# Altium schematic symbol library mcus_atmel.SchLib: 62 symbols (part 2 of 2)
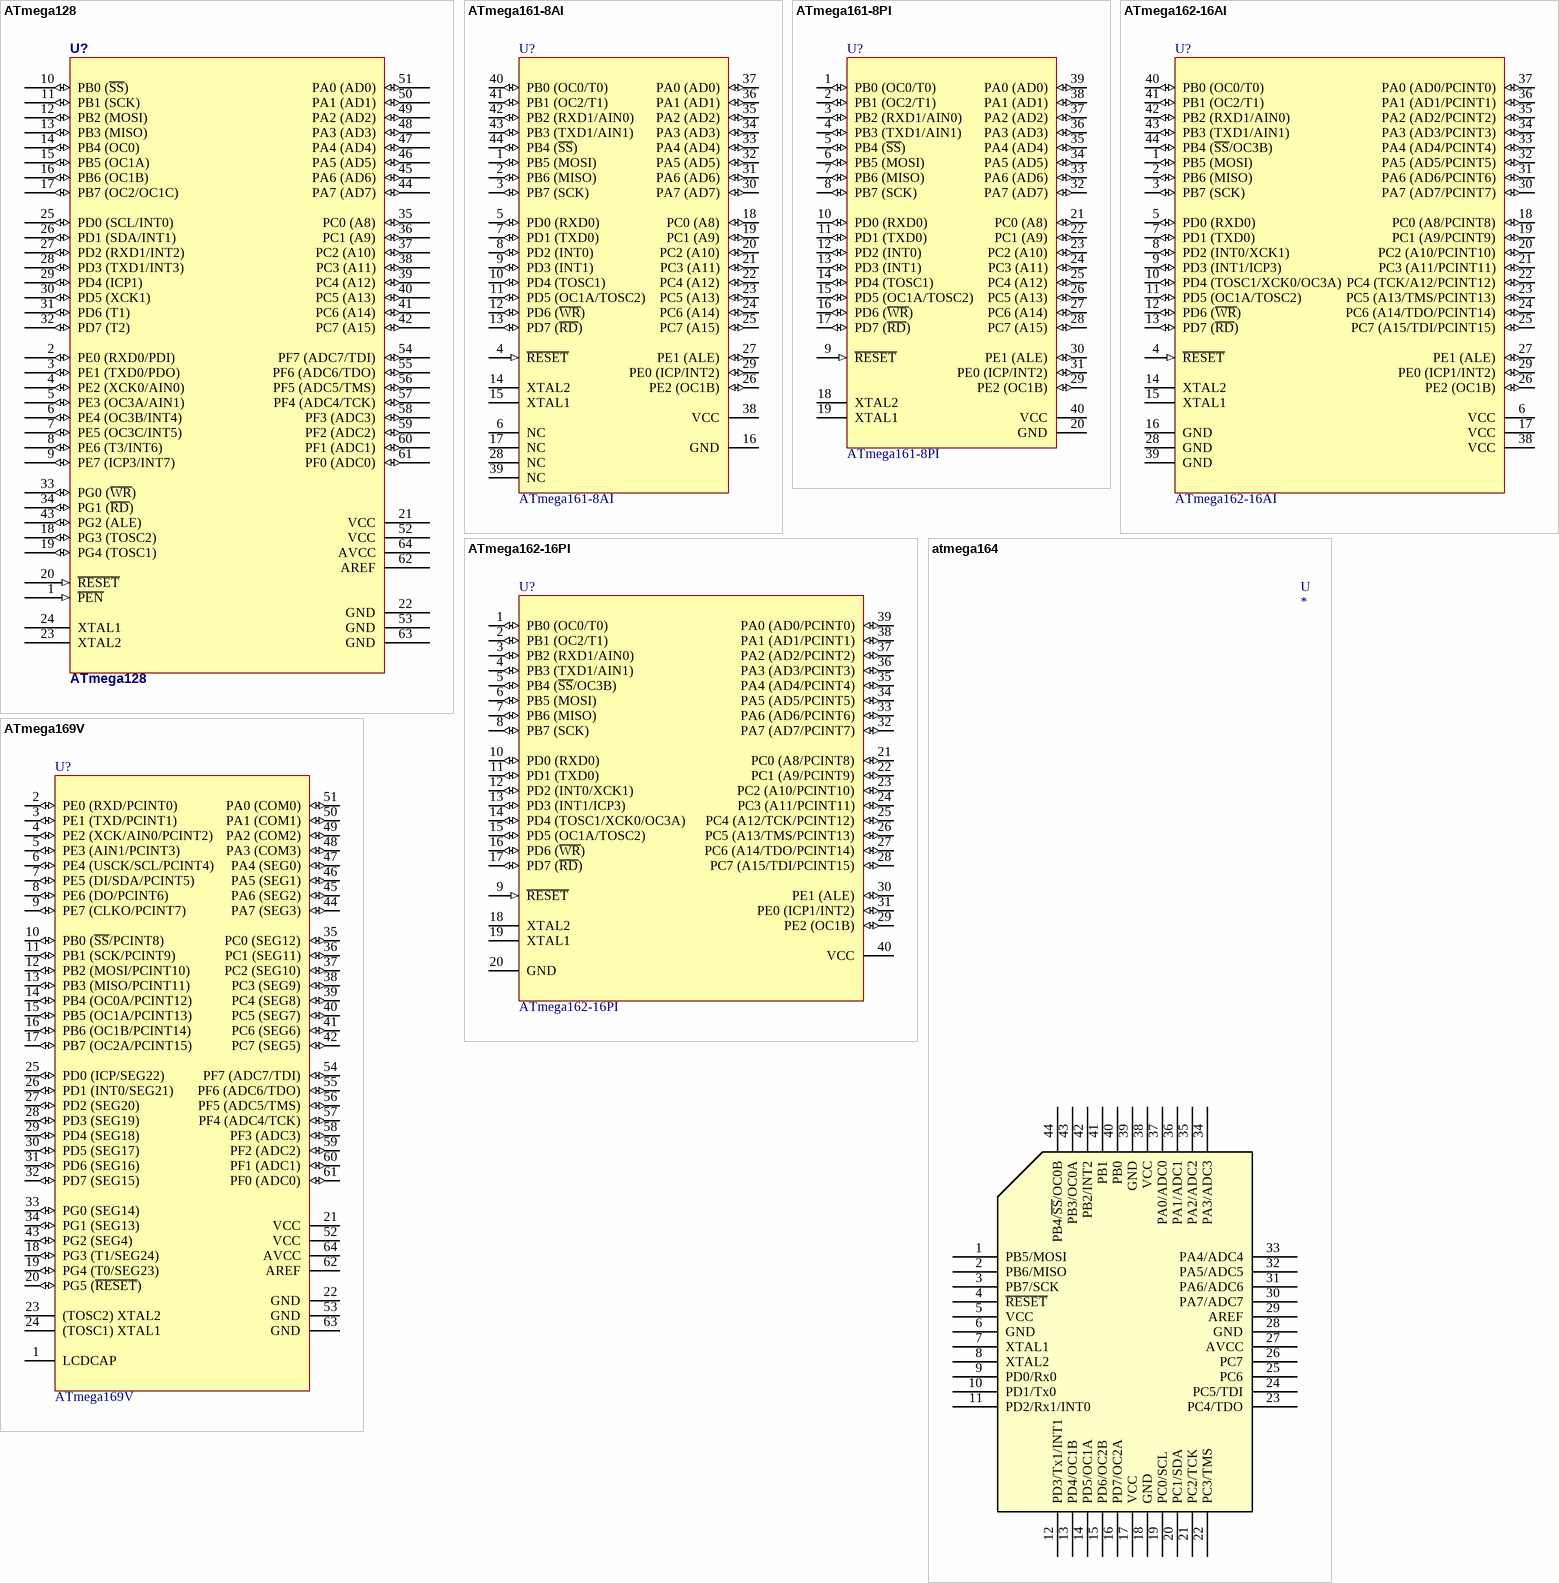
[diagram p7: symbols ATmega128 to ATmega169V]

## atmega164
designator U
ComponentLink1Description: datasheet; ComponentLink2Description: supplier
footprint TQFP44 (Footprint not found)
pins: 1 PB5/MOSI, 2 PB6/MISO, 3 PB7/SCK, 4 ~{RESET}, 5 VCC, 6 GND, 7 XTAL1, 8 XTAL2, 9 PD0/Rx0, 10 PD1/Tx0, 11 PD2/Rx1/INT0, 12 PD3/Tx1/INT1, 13 PD4/OC1B, 14 PD5/OC1A, 15 PD6/OC2B, 16 PD7/OC2A, 17 VCC, 18 GND, 19 PC0/SCL, 20 PC1/SDA, 21 PC2/TCK, 22 PC3/TMS, 23 PC4/TDO, 24 PC5/TDI, 25 PC6, 26 PC7, 27 AVCC, 28 GND, 29 AREF, 30 PA7/ADC7, 31 PA6/ADC6, 32 PA5/ADC5, 33 PA4/ADC4, 34 PA3/ADC3, 35 PA2/ADC2, 36 PA1/ADC1, 37 PA0/ADC0, 38 VCC, 39 GND, 40 PB0, 41 PB1, 42 PB2/INT2, 43 PB3/OC0A, 44 PB4/~{SS}/OC0B

## ATmega169V
designator U?
AVR 16K Bytes of In-System Programmable Flash Memory; Published: 17-Sep-2003; PackageDescription: 64-Pin Thin Quad Flat Pack 0.8 mm Pitch; ComponentLink1Description: datasheet; ComponentLink1URL: http://www.atmel.com/dyn/resources/prod_documents/doc1004.pdf; ComponentLink2Description: supplier
footprint TQFP64 (QFP; 64 Leads; Body 14 x 14 mm; Pitch 0.8 mm)
pins: 1 LCDCAP, 2 PE0 (RXD/PCINT0) (io), 3 PE1 (TXD/PCINT1) (io), 4 PE2 (XCK/AIN0/PCINT2) (io), 5 PE3 (AIN1/PCINT3) (io), 6 PE4 (USCK/SCL/PCINT4) (io), 7 PE5 (DI/SDA/PCINT5) (io), 8 PE6 (DO/PCINT6) (io), 9 PE7 (CLKO/PCINT7) (io), 10 PB0 (~{SS}/PCINT8) (io), 11 PB1 (SCK/PCINT9) (io), 12 PB2 (MOSI/PCINT10) (io), 13 PB3 (MISO/PCINT11) (io), 14 PB4 (OC0A/PCINT12) (io), 15 PB5 (OC1A/PCINT13) (io), 16 PB6 (OC1B/PCINT14) (io), 17 PB7 (OC2A/PCINT15) (io), 18 PG3 (T1/SEG24) (io), 19 PG4 (T0/SEG23) (io), 20 PG5 (~{RESET}) (io), 21 VCC (power), 22 GND (power), 23 (TOSC2) XTAL2, 24 (TOSC1) XTAL1, 25 PD0 (ICP/SEG22) (io), 26 PD1 (INT0/SEG21) (io), 27 PD2 (SEG20) (io), 28 PD3 (SEG19) (io), 29 PD4 (SEG18) (io), 30 PD5 (SEG17) (io), 31 PD6 (SEG16) (io), 32 PD7 (SEG15) (io), 33 PG0 (SEG14) (io), 34 PG1 (SEG13) (io), 35 PC0 (SEG12) (io), 36 PC1 (SEG11) (io), 37 PC2 (SEG10) (io), 38 PC3 (SEG9) (io), 39 PC4 (SEG8) (io), 40 PC5 (SEG7) (io), 41 PC6 (SEG6) (io), 42 PC7 (SEG5) (io), 43 PG2 (SEG4) (io), 44 PA7 (SEG3) (io), 45 PA6 (SEG2) (io), 46 PA5 (SEG1) (io), 47 PA4 (SEG0) (io), 48 PA3 (COM3) (io), 49 PA2 (COM2) (io), 50 PA1 (COM1) (io), 51 PA0 (COM0) (io), 52 VCC (power), 53 GND (power), 54 PF7 (ADC7/TDI) (io), 55 PF6 (ADC6/TDO) (io), 56 PF5 (ADC5/TMS) (io), 57 PF4 (ADC4/TCK) (io), 58 PF3 (ADC3) (io), 59 PF2 (ADC2) (io), 60 PF1 (ADC1) (io), 61 PF0 (ADC0) (io), 62 AREF, 63 GND (power), 64 AVCC (power)

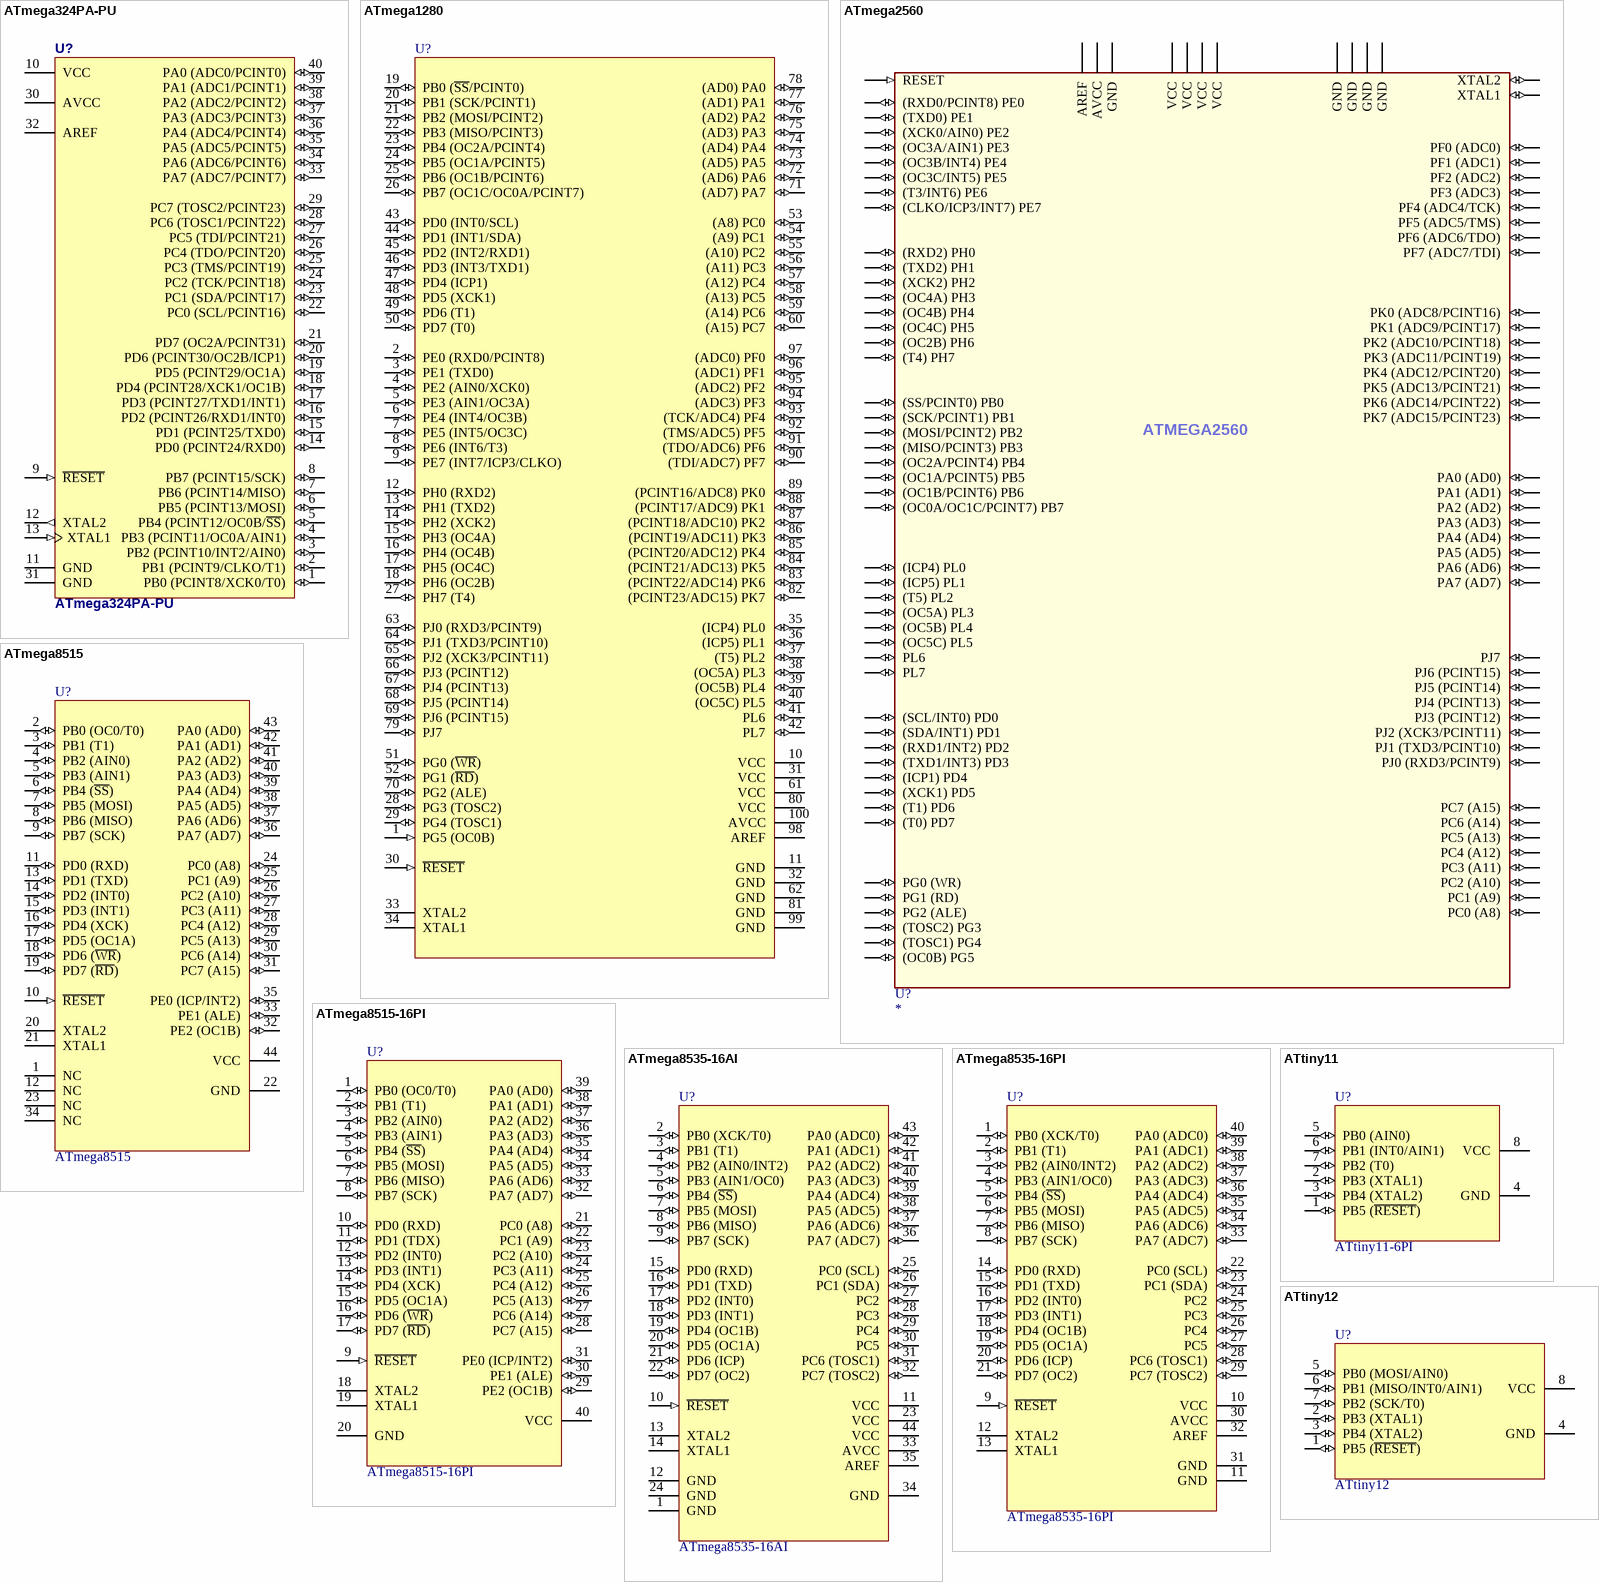
[diagram p5: symbols ATmega324PA-PU to ATtiny12]

## ATmega324PA-PU
designator U?
8-bit AVR Microcontroller, 32KB Flash, 1KB EEPROM, 2KB SRAM, 40-pin PDIP, Industrial Grade (-40°C to 85°C); DatasheetVersion: revC, Jun-2011; PackageVersion: revB, Sep-2001; PackageReference: 40P6; PackageDescription: 40-lead (0.600"/15.24mm Wide) Plastic Dual Inline Package (PDIP); Code_JEDEC: MS-011-AC; ComponentLink1Description: Manufacturer URL; ComponentLink1URL: http://www.atmel.com/; ComponentLink2Description: ATmega164A/164PA/324A/324PA/644A/644PA/1284/1284P Datasheet; ComponentLink2URL: http://www.atmel.com/dyn/resources/prod_documents/doc8272.pdf; ComponentLink3Description: ATmega164A/164PA/324A/324PA/644A/644PA/1284/1284P Summary; ComponentLink3URL: http://www.atmel.com/dyn/resources/prod_documents/8272S.pdf
footprint DIP40
footprint DIP40_PRECISION
footprint DIP40_PRECISION_W_IC
pins: 1 PB0 (PCINT8/XCK0/T0) (io), 2 PB1 (PCINT9/CLKO/T1) (io), 3 PB2 (PCINT10/INT2/AIN0) (io), 4 PB3 (PCINT11/OC0A/AIN1) (io), 5 PB4 (PCINT12/OC0B/~{SS}) (io), 6 PB5 (PCINT13/MOSI) (io), 7 PB6 (PCINT14/MISO) (io), 8 PB7 (PCINT15/SCK) (io), 9 ~{RESET} (in), 10 VCC (power), 11 GND (power), 12 XTAL2 (out), 13 XTAL1 (in), 14 PD0 (PCINT24/RXD0) (io), 15 PD1 (PCINT25/TXD0) (io), 16 PD2 (PCINT26/RXD1/INT0) (io), 17 PD3 (PCINT27/TXD1/INT1) (io), 18 PD4 (PCINT28/XCK1/OC1B) (io), 19 PD5 (PCINT29/OC1A) (io), 20 PD6 (PCINT30/OC2B/ICP1) (io), 21 PD7 (OC2A/PCINT31) (io), 22 PC0 (SCL/PCINT16) (io), 23 PC1 (SDA/PCINT17) (io), 24 PC2 (TCK/PCINT18) (io), 25 PC3 (TMS/PCINT19) (io), 26 PC4 (TDO/PCINT20) (io), 27 PC5 (TDI/PCINT21) (io), 28 PC6 (TOSC1/PCINT22) (io), 29 PC7 (TOSC2/PCINT23) (io), 30 AVCC (power), 31 GND (power), 32 AREF (power), 33 PA7 (ADC7/PCINT7) (io), 34 PA6 (ADC6/PCINT6) (io), 35 PA5 (ADC5/PCINT5) (io), 36 PA4 (ADC4/PCINT4) (io), 37 PA3 (ADC3/PCINT3) (io), 38 PA2 (ADC2/PCINT2) (io), 39 PA1 (ADC1/PCINT1) (io), 40 PA0 (ADC0/PCINT0) (io)

## ATmega1280
designator U?
8-Bit AVR Microcontroller with 128K Bytes of In-System Programmable Flash; Published: 21-Jun-2006; PackageReference: TQFP100
footprint TQFP100 (QFP; 100 Leads; Body 14 x 14 mm; Pitch 0.5 mm)
pins: 1 PG5 (OC0B) (in), 2 PE0 (RXD0/PCINT8) (io), 3 PE1 (TXD0) (io), 4 PE2 (AIN0/XCK0) (io), 5 PE3 (AIN1/OC3A) (io), 6 PE4 (INT4/OC3B) (io), 7 PE5 (INT5/OC3C) (io), 8 PE6 (INT6/T3) (io), 9 PE7 (INT7/ICP3/CLKO) (io), 10 VCC (power), 11 GND (power), 12 PH0 (RXD2) (io), 13 PH1 (TXD2) (io), 14 PH2 (XCK2) (io), 15 PH3 (OC4A) (io), 16 PH4 (OC4B) (io), 17 PH5 (OC4C) (io), 18 PH6 (OC2B) (io), 19 PB0 (~{SS}/PCINT0) (io), 20 PB1 (SCK/PCINT1) (io), 21 PB2 (MOSI/PCINT2) (io), 22 PB3 (MISO/PCINT3) (io), 23 PB4 (OC2A/PCINT4) (io), 24 PB5 (OC1A/PCINT5) (io), 25 PB6 (OC1B/PCINT6) (io), 26 PB7 (OC1C/OC0A/PCINT7) (io), 27 PH7 (T4) (io), 28 PG3 (TOSC2) (io), 29 PG4 (TOSC1) (io), 30 ~{RESET} (in), 31 VCC (power), 32 GND (power), 33 XTAL2, 34 XTAL1, 35 (ICP4) PL0 (io), 36 (ICP5) PL1 (io), 37 (T5) PL2 (io), 38 (OC5A) PL3 (io), 39 (OC5B) PL4 (io), 40 (OC5C) PL5 (io), 41 PL6 (io), 42 PL7 (io), 43 PD0 (INT0/SCL) (io), 44 PD1 (INT1/SDA) (io), 45 PD2 (INT2/RXD1) (io), 46 PD3 (INT3/TXD1) (io), 47 PD4 (ICP1) (io), 48 PD5 (XCK1) (io), 49 PD6 (T1) (io), 50 PD7 (T0) (io), 51 PG0 (~{WR}) (io), 52 PG1 (~{RD}) (io), 53 (A8) PC0 (io), 54 (A9) PC1 (io), 55 (A10) PC2 (io), 56 (A11) PC3 (io), 57 (A12) PC4 (io), 58 (A13) PC5 (io), 59 (A14) PC6 (io), 60 (A15) PC7 (io), 61 VCC (power), 62 GND (power), 63 PJ0 (RXD3/PCINT9) (io), 64 PJ1 (TXD3/PCINT10) (io), 65 PJ2 (XCK3/PCINT11) (io), 66 PJ3 (PCINT12) (io), 67 PJ4 (PCINT13) (io), 68 PJ5 (PCINT14) (io), 69 PJ6 (PCINT15) (io), 70 PG2 (ALE) (io), 71 (AD7) PA7 (io), 72 (AD6) PA6 (io), 73 (AD5) PA5 (io), 74 (AD4) PA4 (io), 75 (AD3) PA3 (io), 76 (AD2) PA2 (io), 77 (AD1) PA1 (io), 78 (AD0) PA0 (io), 79 PJ7 (io), 80 VCC (power), 81 GND (power), 82 (PCINT23/ADC15) PK7 (io), 83 (PCINT22/ADC14) PK6 (io), 84 (PCINT21/ADC13) PK5 (io), 85 (PCINT20/ADC12) PK4 (io), 86 (PCINT19/ADC11) PK3 (io), 87 (PCINT18/ADC10) PK2 (io), 88 (PCINT17/ADC9) PK1 (io), 89 (PCINT16/ADC8) PK0 (io), 90 (TDI/ADC7) PF7 (io), 91 (TDO/ADC6) PF6 (io), 92 (TMS/ADC5) PF5 (io), 93 (TCK/ADC4) PF4 (io), 94 (ADC3) PF3 (io), 95 (ADC2) PF2 (io), 96 (ADC1) PF1 (io), 97 (ADC0) PF0 (io), 98 AREF, 99 GND (power), 100 AVCC (power)

## ATmega2560
designator U?
AVR 256K Bytes of In-System Programmable Flash Memory; ComponentLink1Description: datasheet; ComponentLink2Description: supplier
footprint TQFP100 (QFP; 100 Leads; Body 14 x 14 mm; Pitch 0.5 mm)
pins: 1 (OC0B) PG5 (io), 2 (RXD0/PCINT8) PE0 (io), 3 (TXD0) PE1 (io), 4 (XCK0/AIN0) PE2 (io), 5 (OC3A/AIN1) PE3 (io), 6 (OC3B/INT4) PE4 (io), 7 (OC3C/INT5) PE5 (io), 8 (T3/INT6) PE6 (io), 9 (CLKO/ICP3/INT7) PE7 (io), 10 VCC (power), 11 GND (power), 12 (RXD2) PH0 (io), 13 (TXD2) PH1 (io), 14 (XCK2) PH2 (io), 15 (OC4A) PH3 (io), 16 (OC4B) PH4 (io), 17 (OC4C) PH5 (io), 18 (OC2B) PH6 (io), 19 (SS/PCINT0) PB0 (io), 20 (SCK/PCINT1) PB1 (io), 21 (MOSI/PCINT2) PB2 (io), 22 (MISO/PCINT3) PB3 (io), 23 (OC2A/PCINT4) PB4 (io), 24 (OC1A/PCINT5) PB5 (io), 25 (OC1B/PCINT6) PB6 (io), 26 (OC0A/OC1C/PCINT7) PB7 (io), 27 (T4) PH7 (io), 28 (TOSC2) PG3 (io), 29 (TOSC1) PG4 (io), 30 RESET (in), 31 VCC (power), 32 GND (power), 33 XTAL2 (io), 34 XTAL1 (io), 35 (ICP4) PL0 (io), 36 (ICP5) PL1 (io), 37 (T5) PL2 (io), 38 (OC5A) PL3 (io), 39 (OC5B) PL4 (io), 40 (OC5C) PL5 (io), 41 PL6 (io), 42 PL7 (io), 43 (SCL/INT0) PD0 (io), 44 (SDA/INT1) PD1 (io), 45 (RXD1/INT2) PD2 (io), 46 (TXD1/INT3) PD3 (io), 47 (ICP1) PD4 (io), 48 (XCK1) PD5 (io), 49 (T1) PD6 (io), 50 (T0) PD7 (io), 51 PG0 (WR) (io), 52 PG1 (RD) (io), 53 PC0 (A8) (io), 54 PC1 (A9) (io), 55 PC2 (A10) (io), 56 PC3 (A11) (io), 57 PC4 (A12) (io), 58 PC5 (A13) (io), 59 PC6 (A14) (io), 60 PC7 (A15) (io), 61 VCC (power), 62 GND (power), 63 PJ0 (RXD3/PCINT9) (io), 64 PJ1 (TXD3/PCINT10) (io), 65 PJ2 (XCK3/PCINT11) (io), 66 PJ3 (PCINT12) (io), 67 PJ4 (PCINT13) (io), 68 PJ5 (PCINT14) (io), 69 PJ6 (PCINT15) (io), 70 PG2 (ALE) (io), 71 PA7 (AD7) (io), 72 PA6 (AD6) (io), 73 PA5 (AD5) (io), 74 PA4 (AD4) (io), 75 PA3 (AD3) (io), 76 PA2 (AD2) (io), 77 PA1 (AD1) (io), 78 PA0 (AD0) (io), 79 PJ7 (io), 80 VCC (power), 81 GND (power), 82 PK7 (ADC15/PCINT23) (io), 83 PK6 (ADC14/PCINT22) (io), 84 PK5 (ADC13/PCINT21) (io), 85 PK4 (ADC12/PCINT20) (io), 86 PK3 (ADC11/PCINT19) (io), 87 PK2 (ADC10/PCINT18) (io), 88 PK1 (ADC9/PCINT17) (io), 89 PK0 (ADC8/PCINT16) (io), 90 PF7 (ADC7/TDI) (io), 91 PF6 (ADC6/TDO) (io), 92 PF5 (ADC5/TMS) (io), 93 PF4 (ADC4/TCK) (io), 94 PF3 (ADC3) (io), 95 PF2 (ADC2) (io), 96 PF1 (ADC1) (io), 97 PF0 (ADC0) (io), 98 AREF, 99 GND (power), 100 AVCC (power)
text: ATMEGA2560

## ATmega8515
designator U?
AVR 8K Bytes of In-System Programmable Flash Memory; Published: 17-Sep-2003; PackageDescription: 44-Pin Thin Quad Flat Pack 0.8 mm Pitch; ComponentLink1Description: datasheet; ComponentLink1URL: http://www.atmel.com/dyn/resources/prod_documents/doc1004.pdf; ComponentLink2Description: supplier
footprint TQFP44
pins: 1 NC, 2 PB0 (OC0/T0) (io), 3 PB1 (T1) (io), 4 PB2 (AIN0) (io), 5 PB3 (AIN1) (io), 6 PB4 (~{SS}) (io), 7 PB5 (MOSI) (io), 8 PB6 (MISO) (io), 9 PB7 (SCK) (io), 10 ~{RESET} (in), 11 PD0 (RXD) (io), 12 NC, 13 PD1 (TXD) (io), 14 PD2 (INT0) (io), 15 PD3 (INT1) (io), 16 PD4 (XCK) (io), 17 PD5 (OC1A) (io), 18 PD6 (~{WR}) (io), 19 PD7 (~{RD}) (io), 20 XTAL2, 21 XTAL1, 22 GND (power), 23 NC, 24 PC0 (A8) (io), 25 PC1 (A9) (io), 26 PC2 (A10) (io), 27 PC3 (A11) (io), 28 PC4 (A12) (io), 29 PC5 (A13) (io), 30 PC6 (A14) (io), 31 PC7 (A15) (io), 32 PE2 (OC1B) (io), 33 PE1 (ALE) (io), 34 NC, 35 PE0 (ICP/INT2) (io), 36 PA7 (AD7) (io), 37 PA6 (AD6) (io), 38 PA5 (AD5) (io), 39 PA4 (AD4) (io), 40 PA3 (AD3) (io), 41 PA2 (AD2) (io), 42 PA1 (AD1) (io), 43 PA0 (AD0) (io), 44 VCC (power)

## ATmega8515-16PI
designator U?
AVR 8K Bytes of In-System Programmable Flash Memory; Published: 17-Sep-2003; PackageDescription: DIP; 40 Leads; Row Spacing 15.24 mm; Pitch 2.54 mm; ComponentLink1Description: datasheet; ComponentLink1URL: http://www.atmel.com/dyn/resources/prod_documents/doc1004.pdf; ComponentLink2Description: supplier
footprint DIP40
pins: 1 PB0 (OC0/T0) (io), 2 PB1 (T1) (io), 3 PB2 (AIN0) (io), 4 PB3 (AIN1) (io), 5 PB4 (~{SS}) (io), 6 PB5 (MOSI) (io), 7 PB6 (MISO) (io), 8 PB7 (SCK) (io), 9 ~{RESET} (in), 10 PD0 (RXD) (io), 11 PD1 (TDX) (io), 12 PD2 (INT0) (io), 13 PD3 (INT1) (io), 14 PD4 (XCK) (io), 15 PD5 (OC1A) (io), 16 PD6 (~{WR}) (io), 17 PD7 (~{RD}) (io), 18 XTAL2, 19 XTAL1, 20 GND (power), 21 PC0 (A8) (io), 22 PC1 (A9) (io), 23 PC2 (A10) (io), 24 PC3 (A11) (io), 25 PC4 (A12) (io), 26 PC5 (A13) (io), 27 PC6 (A14) (io), 28 PC7 (A15) (io), 29 PE2 (OC1B) (io), 30 PE1 (ALE) (io), 31 PE0 (ICP/INT2) (io), 32 PA7 (AD7) (io), 33 PA6 (AD6) (io), 34 PA5 (AD5) (io), 35 PA4 (AD4) (io), 36 PA3 (AD3) (io), 37 PA2 (AD2) (io), 38 PA1 (AD1) (io), 39 PA0 (AD0) (io), 40 VCC (power)

## ATmega8535-16AI
designator U?
AVR 8K Bytes of In-System Programmable Flash Memory; Published: 17-Sep-2003; PackageDescription: 44-Pin Thin Quad Flat Pack 0.8 mm Pitch; ComponentLink1Description: datasheet; ComponentLink1URL: http://www.atmel.com/dyn/resources/prod_documents/doc1004.pdf; ComponentLink2Description: supplier
footprint TQFP44
pins: 1 GND (power), 2 PB0 (XCK/T0) (io), 3 PB1 (T1) (io), 4 PB2 (AIN0/INT2) (io), 5 PB3 (AIN1/OC0) (io), 6 PB4 (~{SS}) (io), 7 PB5 (MOSI) (io), 8 PB6 (MISO) (io), 9 PB7 (SCK) (io), 10 ~{RESET} (in), 11 VCC (power), 12 GND (power), 13 XTAL2, 14 XTAL1, 15 PD0 (RXD) (io), 16 PD1 (TXD) (io), 17 PD2 (INT0) (io), 18 PD3 (INT1) (io), 19 PD4 (OC1B) (io), 20 PD5 (OC1A) (io), 21 PD6 (ICP) (io), 22 PD7 (OC2) (io), 23 VCC (power), 24 GND (power), 25 PC0 (SCL) (io), 26 PC1 (SDA) (io), 27 PC2 (io), 28 PC3 (io), 29 PC4 (io), 30 PC5 (io), 31 PC6 (TOSC1) (io), 32 PC7 (TOSC2) (io), 33 AVCC (power), 34 GND (power), 35 AREF, 36 PA7 (ADC7) (io), 37 PA6 (ADC6) (io), 38 PA5 (ADC5) (io), 39 PA4 (ADC4) (io), 40 PA3 (ADC3) (io), 41 PA2 (ADC2) (io), 42 PA1 (ADC1) (io), 43 PA0 (ADC0) (io), 44 VCC (power)

## ATmega8535-16PI
designator U?
AVR 8K Bytes of In-System Programmable Flash Memory; Published: 17-Sep-2003; PackageDescription: DIP; 40 Leads; Row Spacing 15.24 mm; Pitch 2.54 mm; ComponentLink1Description: datasheet; ComponentLink1URL: http://www.atmel.com/dyn/resources/prod_documents/doc1004.pdf; ComponentLink2Description: supplier
footprint DIP40
pins: 1 PB0 (XCK/T0) (io), 2 PB1 (T1) (io), 3 PB2 (AIN0/INT2) (io), 4 PB3 (AIN1/OC0) (io), 5 PB4 (~{SS}) (io), 6 PB5 (MOSI) (io), 7 PB6 (MISO) (io), 8 PB7 (SCK) (io), 9 ~{RESET} (in), 10 VCC (power), 11 GND (power), 12 XTAL2, 13 XTAL1, 14 PD0 (RXD) (io), 15 PD1 (TXD) (io), 16 PD2 (INT0) (io), 17 PD3 (INT1) (io), 18 PD4 (OC1B) (io), 19 PD5 (OC1A) (io), 20 PD6 (ICP) (io), 21 PD7 (OC2) (io), 22 PC0 (SCL) (io), 23 PC1 (SDA) (io), 24 PC2 (io), 25 PC3 (io), 26 PC4 (io), 27 PC5 (io), 28 PC6 (TOSC1) (io), 29 PC7 (TOSC2) (io), 30 AVCC (power), 31 GND (power), 32 AREF, 33 PA7 (ADC7) (io), 34 PA6 (ADC6) (io), 35 PA5 (ADC5) (io), 36 PA4 (ADC4) (io), 37 PA3 (ADC3) (io), 38 PA2 (ADC2) (io), 39 PA1 (ADC1) (io), 40 PA0 (ADC0) (io)

## ATtiny11
designator U?, comment ATtiny11-6PI
AVR 1K Byte of Flash Memory; Published: 17-Sep-2003; PackageDescription: DIP; 8 Leads; Row Spacing 7.62 mm; Pitch 2.54 mm; ComponentLink1Description: datasheet; ComponentLink1URL: http://www.atmel.com/dyn/resources/prod_documents/doc1004.pdf; ComponentLink2Description: supplier
footprint DIP8
footprint SO8 (Small Outline; 8 Leads; Body Width 3.7 mm; Pitch 1.27 mm)
pins: 1 PB5 (~{RESET}) (io), 2 PB3 (XTAL1) (io), 3 PB4 (XTAL2) (io), 4 GND (power), 5 PB0 (AIN0) (io), 6 PB1 (INT0/AIN1) (io), 7 PB2 (T0) (io), 8 VCC (power)

## ATtiny12
designator U?
AVR 1K Byte of Flash Memory; Published: 17-Sep-2003; PackageDescription: DIP; 8 Leads; Row Spacing 7.62 mm; Pitch 2.54 mm; ComponentLink1Description: datasheet; ComponentLink1URL: http://www.atmel.com/dyn/resources/prod_documents/doc1004.pdf; ComponentLink2Description: supplier
footprint DIP8
footprint SO8 (Small Outline; 8 Leads; Body Width 3.7 mm; Pitch 1.27 mm)
pins: 1 PB5 (~{RESET}) (io), 2 PB3 (XTAL1) (io), 3 PB4 (XTAL2) (io), 4 GND (power), 5 PB0 (MOSI/AIN0) (io), 6 PB1 (MISO/INT0/AIN1) (io), 7 PB2 (SCK/T0) (io), 8 VCC (power)

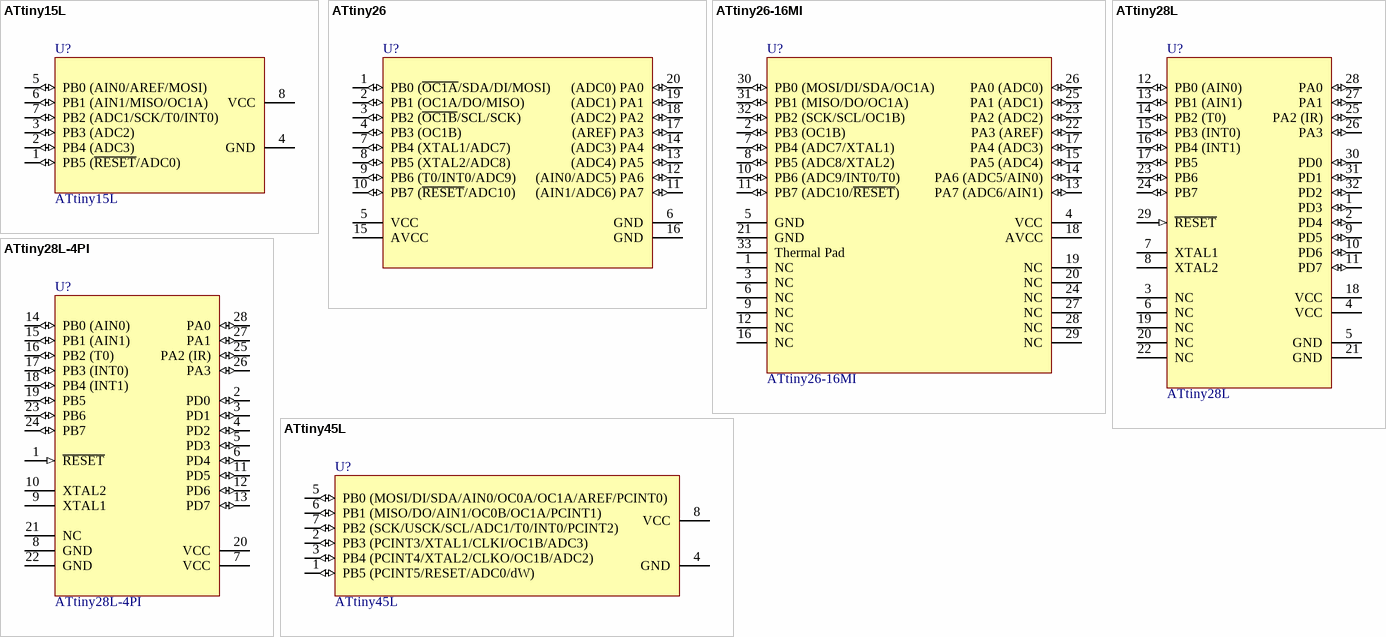
[diagram p6: symbols ATtiny15L to ATtiny45L]

## ATtiny15L
designator U?
AVR 1K Byte of Flash Memory; Published: 17-Sep-2003; PackageDescription: DIP; 8 Leads; Row Spacing 7.62 mm; Pitch 2.54 mm; ComponentLink1Description: datasheet; ComponentLink1URL: http://www.atmel.com/dyn/resources/prod_documents/doc1004.pdf; ComponentLink2Description: supplier
footprint DIP8
footprint SO8 (Small Outline; 8 Leads; Body Width 3.7 mm; Pitch 1.27 mm)
pins: 1 PB5 (~{RESET}/ADC0) (io), 2 PB4 (ADC3) (io), 3 PB3 (ADC2) (io), 4 GND (power), 5 PB0 (AIN0/AREF/MOSI) (io), 6 PB1 (AIN1/MISO/OC1A) (io), 7 PB2 (ADC1/SCK/T0/INT0) (io), 8 VCC (power)

## ATtiny26
designator U?
8-Bit AVR Microcontroller with 2K Bytes Flash; Published: 20-Mar-2006; PackageReference: SO20
footprint SO20 (Small Outline; 20 Leads; Body Width 3.9 mm; Pitch 1.27 mm)
footprint DIP20_MANUAL
pins: 1 PB0 (~{OC1A}/SDA/DI/MOSI) (io), 2 PB1 (OC1A/DO/MISO) (io), 3 PB2 (~{OC1B}/SCL/SCK) (io), 4 PB3 (OC1B) (io), 5 VCC (power), 6 GND (power), 7 PB4 (XTAL1/ADC7) (io), 8 PB5 (XTAL2/ADC8) (io), 9 PB6 (T0/INT0/ADC9) (io), 10 PB7 (~{RESET}/ADC10) (io), 11 (AIN1/ADC6) PA7 (io), 12 (AIN0/ADC5) PA6 (io), 13 (ADC4) PA5 (io), 14 (ADC3) PA4 (io), 15 AVCC (power), 16 GND (power), 17 (AREF) PA3 (io), 18 (ADC2) PA2 (io), 19 (ADC1) PA1 (io), 20 (ADC0) PA0 (io)

## ATtiny26-16MI
designator U?
AVR 2K Bytes of Flash Memory; Published: 26-May-2004; PackageDescription: 32-Pin Quad Flat No-Lead 0.5 mm Pitch; ComponentLink1Description: datasheet; ComponentLink1URL: http://www.atmel.com/dyn/resources/prod_documents/doc1004.pdf; ComponentLink2Description: supplier
pins: 1 NC, 2 PB3 (OC1B) (io), 3 NC, 4 VCC (power), 5 GND (power), 6 NC, 7 PB4 (ADC7/XTAL1) (io), 8 PB5 (ADC8/XTAL2) (io), 9 NC, 10 PB6 (ADC9/INT0/T0) (io), 11 PB7 (ADC10/~{RESET}) (io), 12 NC, 13 PA7 (ADC6/AIN1) (io), 14 PA6 (ADC5/AIN0) (io), 15 PA5 (ADC4) (io), 16 NC, 17 PA4 (ADC3) (io), 18 AVCC (power), 19 NC, 20 NC, 21 GND (power), 22 PA3 (AREF) (io), 23 PA2 (ADC2) (io), 24 NC, 25 PA1 (ADC1) (io), 26 PA0 (ADC0) (io), 27 NC, 28 NC, 29 NC, 30 PB0 (MOSI/DI/SDA/OC1A) (io), 31 PB1 (MISO/DO/OC1A) (io), 32 PB2 (SCK/SCL/OC1B) (io), 33 Thermal Pad (power)

## ATtiny28L
designator U?
AVR 2K Bytes of Flash Memory; Published: 17-Sep-2003; PackageDescription: 32-Pin Thin Quad Flat Pack 0.8 mm Pitch; ComponentLink1Description: datasheet; ComponentLink1URL: http://www.atmel.com/dyn/resources/prod_documents/doc1004.pdf; ComponentLink2Description: supplier
footprint TQFP32 (QFP; 32 Leads; Body 7 x 7 mm; Pitch 0.8 mm)
pins: 1 PD3 (io), 2 PD4 (io), 3 NC, 4 VCC (power), 5 GND (power), 6 NC, 7 XTAL1, 8 XTAL2, 9 PD5 (io), 10 PD6 (io), 11 PD7 (io), 12 PB0 (AIN0) (io), 13 PB1 (AIN1) (io), 14 PB2 (T0) (io), 15 PB3 (INT0) (io), 16 PB4 (INT1) (io), 17 PB5 (io), 18 VCC (power), 19 NC, 20 NC, 21 GND (power), 22 NC, 23 PB6 (io), 24 PB7 (io), 25 PA2 (IR) (io), 26 PA3 (io), 27 PA1 (io), 28 PA0 (io), 29 ~{RESET} (in), 30 PD0 (io), 31 PD1 (io), 32 PD2 (io)

## ATtiny28L-4PI
designator U?
AVR 2K Bytes of Flash Memory; Published: 17-Sep-2003; PackageDescription: DIP; 28 Leads; Row Spacing 7.62 mm; Pitch 2.54 mm; ComponentLink1Description: datasheet; ComponentLink1URL: http://www.atmel.com/dyn/resources/prod_documents/doc1004.pdf; ComponentLink2Description: supplier
footprint DIP28W_manual
pins: 1 ~{RESET} (in), 2 PD0 (io), 3 PD1 (io), 4 PD2 (io), 5 PD3 (io), 6 PD4 (io), 7 VCC (power), 8 GND (power), 9 XTAL1, 10 XTAL2, 11 PD5 (io), 12 PD6 (io), 13 PD7 (io), 14 PB0 (AIN0) (io), 15 PB1 (AIN1) (io), 16 PB2 (T0) (io), 17 PB3 (INT0) (io), 18 PB4 (INT1) (io), 19 PB5 (io), 20 VCC (power), 21 NC, 22 GND (power), 23 PB6 (io), 24 PB7 (io), 25 PA2 (IR) (io), 26 PA3 (io), 27 PA1 (io), 28 PA0 (io)

## ATtiny45L
designator U?
AVR 4K Bytes of In-System Programmable Flash Memory; Producer Nr: ATtiny45L-20SU; Published: 17-Sep-2003; PackageDescription: 8-Pin Small Outline Package 1.27 mm Pitch; ComponentLink1Description: datasheet; ComponentLink1URL: http://www.atmel.com/dyn/resources/prod_documents/doc1004.pdf; ComponentLink2Description: supplier
footprint SOIC (PowerPad)
pins: 1 PB5 (PCINT5/RESET/ADC0/dW)  (io), 2 PB3 (PCINT3/XTAL1/CLKI/OC1B/ADC3)  (io), 3 PB4 (PCINT4/XTAL2/CLKO/OC1B/ADC2)  (io), 4 GND (power), 5 PB0 (MOSI/DI/SDA/AIN0/OC0A/OC1A/AREF/PCINT0) (io), 6 PB1 (MISO/DO/AIN1/OC0B/OC1A/PCINT1) (io), 7 PB2 (SCK/USCK/SCL/ADC1/T0/INT0/PCINT2) (io), 8 VCC (power)